# Altium schematic symbol library ADS8568.SchLib: 1 symbol
Pins are listed as number, name and electrical type; pins without a type are passive.

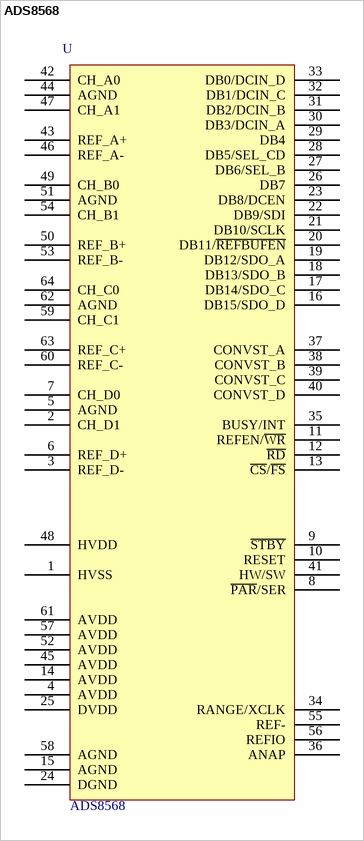
[diagram p0: symbol ADS8568]

## ADS8568
designator U  value ADS8568  (hidden comment: *)
Manufactrer: Texas Instruments; Manufactrer Code: ADS8568SRGCT; Farnell Code: 2076028; Unit Price: 50 €
footprint PQFP-64
pins: 1 HVSS, 2 CH_D1, 3 REF_D-, 4 AVDD, 5 AGND, 6 REF_D+, 7 CH_D0, 8 ~{PAR}/SER, 9 ~{STBY}, 10 RESET, 11 REFEN/~{WR}, 12 ~{RD}, 13 ~{CS}/~{FS}, 14 AVDD, 15 AGND, 16 DB15/SDO_D, 17 DB14/SDO_C, 18 DB13/SDO_B, 19 DB12/SDO_A, 20 DB11/~{REFBUFEN}, 21 DB10/SCLK, 22 DB9/SDI, 23 DB8/DCEN, 24 DGND, 25 DVDD, 26 DB7, 27 DB6/SEL_B, 28 DB5/SEL_CD, 29 DB4, 30 DB3/DCIN_A, 31 DB2/DCIN_B, 32 DB1/DCIN_C, 33 DB0/DCIN_D, 34 RANGE/XCLK, 35 BUSY/INT, 36 ANAP, 37 CONVST_A, 38 CONVST_B, 39 CONVST_C, 40 CONVST_D, 41 HW/SW, 42 CH_A0, 43 REF_A+, 44 AGND, 45 AVDD, 46 REF_A-, 47 CH_A1, 48 HVDD, 49 CH_B0, 50 REF_B+, 51 AGND, 52 AVDD, 53 REF_B-, 54 CH_B1, 55 REF-, 56 REFIO, 57 AVDD, 58 AGND, 59 CH_C1, 60 REF_C-, 61 AVDD, 62 AGND, 63 REF_C+, 64 CH_C0